# EAGLE library part SERIAL_MICRO-USB (library TiLDA Mk2 Parts)
MICRO USB B, BOTTOM MOUNT
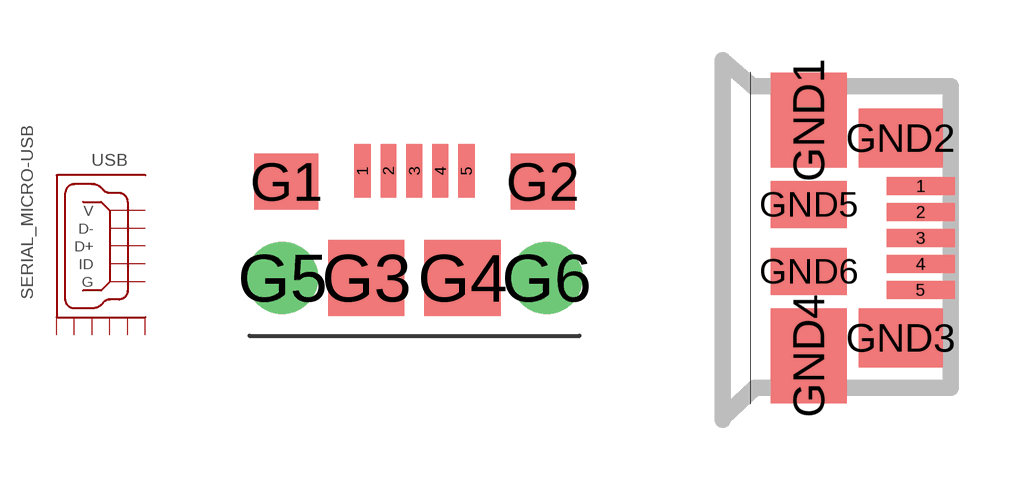
[diagram p1: symbol with the pads of SERIAL_FCI-10118193-0001LF; footprints SERIAL_FCI-10118193-0001LF, SERIAL_MOLEX-47346-0001]

Designator prefix USB

## SERIAL_MICRO-USB-FCI-10118193  [SERIAL_FCI-10118193-0001LF]
1  V  in
2  D-  in
3  D+  in
4  ID  in
5  G  in
G1  GND1  pwr
G2  GND2  pwr
G3  GND3  pwr
G4  GND4  pwr
G5  GND5  pwr
G6  GND6  pwr

## SERIAL_MICRO-USB-MOLEX-47346  [SERIAL_MOLEX-47346-0001]
1  V  in
2  D-  in
3  D+  in
4  ID  in
5  G  in
GND1  GND1  pwr
GND2  GND2  pwr
GND3  GND3  pwr
GND4  GND4  pwr
GND5  GND5  pwr
GND6  GND6  pwr

## SERIAL_MICRO-USB-ZX62-B-5PA  [SERIAL_ZX62-B-5PA]
1  V  in
2  D-  in
3  D+  in
4  ID  in
5  G  in
GND@1  GND1  pwr
GND@2  GND2  pwr
GND@3  GND3  pwr
GND@4  GND4  pwr
GND@5  GND5  pwr
GND@6  GND6  pwr

## Footprint SERIAL_FCI-10118193-0001LF (pad centres in mm)
smd 0.4 x 1.35: 1 -1.3,4.125; 2 -0.65,4.125; 3 0,4.125; 4 0.65,4.125; 5 1.3,4.125
smd 1.6 x 1.4: G1 -3.2,3.86; G2 3.2,3.86
smd 1.9 x 1.9: G3 -1.2,1.45; G4 1.2,1.45
drill 1.2 pad 1.6: G5 -3.3,1.45; G6 3.3,1.45

## Footprint SERIAL_MOLEX-47346-0001 (pad centres in mm)
smd 1.7 x 0.45: 1 4.25,1.3; 2 4.25,0.65; 3 4.25,0; 4 4.25,-0.65; 5 4.25,-1.3
smd 1.9 x 2.375: GND1 1.45,2.95; GND4 1.45,-2.95
smd 2.1 x 1.475: GND2 3.75,2.5; GND3 3.75,-2.5
smd 1.9 x 1.175: GND5 1.45,0.838; GND6 1.45,-0.838

## Footprint SERIAL_ZX62-B-5PA (pad centres in mm)
Hirose ZX62-B-5PA(11) Micro B - Standard (Bottom Mount), Shell SMT
smd 0.4 x 1.35: 1 -1.3,2.675; 2 -0.65,2.675; 3 0,2.675; 4 0.65,2.675; 5 1.3,2.675
smd 2.1 x 1.6: GND@1 -3.1,2.55; GND@2 3.1,2.55
smd 1.6 x 1.9: GND@3 3.9,0; GND@6 -3.9,0
smd 1.9 x 1.9: GND@4 1.2,0; GND@5 -1.2,0